# Altium schematic symbol library Cosmos.SchLib: 68 symbols
Pins are listed as number, name and electrical type; pins without a type are passive.

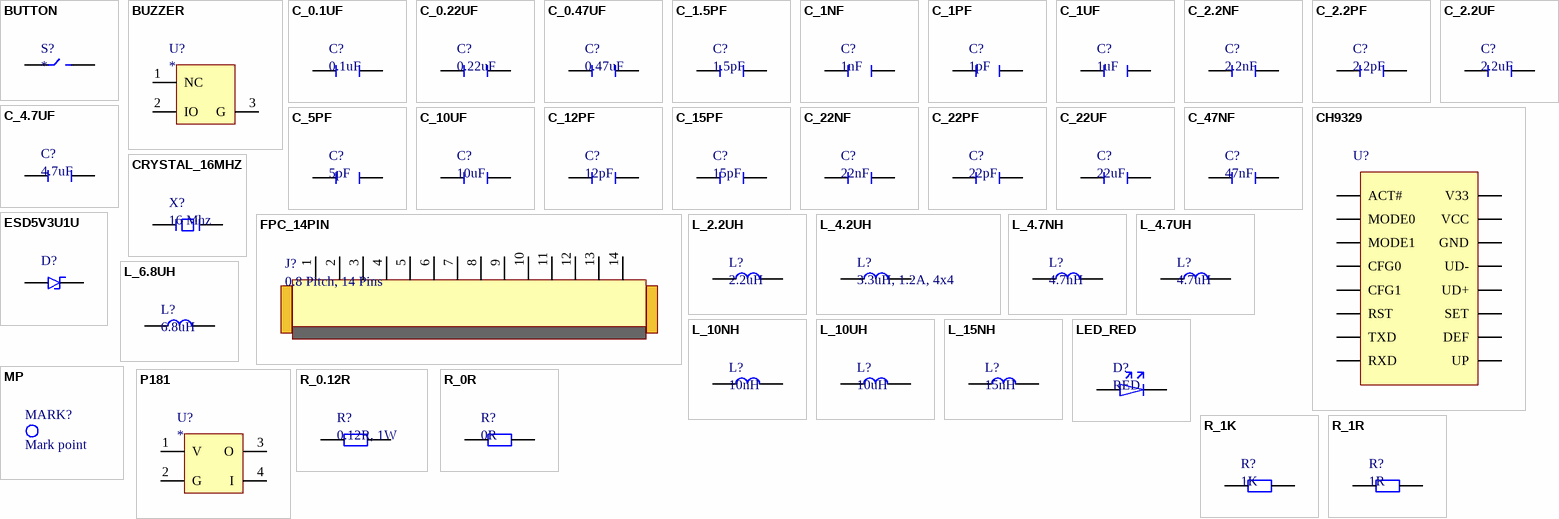
[diagram p0: symbols BUTTON to R_1R]

## BUTTON
designator S?
footprint KFC-A07-06
footprint YD3410
footprint SKRTLAE010
pins: 1, 2

## BUZZER
designator U?
footprint 5020BUZZER (Buzzer, 5020 SMD, 5*5*2)
pins: 1 NC, 2 IO, 3 G

## C_0.1UF
designator C?, comment 0.1uF
footprint C0402
footprint C0603
footprint C1206
pins: 1 17, 2 18

## C_0.22UF
designator C?, comment 0.22uF
footprint C0402
footprint C0603
footprint C1206
pins: 1 17, 2 18

## C_0.47UF
designator C?, comment 0.47uF
footprint C0402
footprint C0603
footprint C1206
pins: 1 17, 2 18

## C_1.5PF
designator C?, comment 1.5pF
footprint C0603
footprint C0402
pins: 1 17, 2 18

## C_1NF
designator C?, comment 1nF
footprint C0603
pins: 1 17, 2 18

## C_1PF
designator C?, comment 1pF
footprint C0603
pins: 1 17, 2 18

## C_1UF
designator C?, comment 1uF
footprint C0603
footprint C0402
pins: 1 17, 2 18

## C_2.2NF
designator C?, comment 2.2nF
footprint C0603
pins: 1 17, 2 18

## C_2.2PF
designator C?, comment 2.2pF
footprint C0603
footprint C0402
pins: 1 17, 2 18

## C_2.2UF
designator C?, comment 2.2uF
footprint C0402
pins: 1 17, 2 18

## C_4.7UF
designator C?, comment 4.7uF
footprint C0603
footprint C0402
pins: 1 17, 2 18

## C_5PF
designator C?, comment 5pF
footprint C0603
footprint C0402
pins: 1 17, 2 18

## C_10UF
designator C?, comment 10uF
footprint C0402
footprint C0603
pins: 1 17, 2 18

## C_12PF
designator C?, comment 12pF
footprint C0603
footprint C0402
pins: 1 17, 2 18

## C_15PF
designator C?, comment 15pF
footprint C0603
footprint C0402
pins: 1 17, 2 18

## C_22NF
designator C?, comment 22nF
footprint C0603
pins: 1 17, 2 18

## C_22PF
designator C?, comment 22pF
footprint C0402
footprint C0603
pins: 1 17, 2 18

## C_22UF
designator C?, comment 22uF
footprint C0402
footprint C0603
pins: 1 17, 2 18

## C_47NF
designator C?, comment 47nF
footprint C0603
pins: 1 17, 2 18

## CH9329
designator U?
footprint CH9329
pins: 1 ACT#, 2 MODE0, 3 MODE1, 4 CFG0, 5 CFG1, 6 RST, 7 TXD, 8 RXD, 9 UP, 10 DEF, 11 SET, 12 UD+, 13 UD-, 14 GND, 15 VCC, 16 V33

## CRYSTAL_16MHZ
designator X?, comment 16 Mhz
footprint CSTCE16M0V53-R0 (3215 Crystal 16Mhz)
pins: 1 5, 2 6

## ESD5V3U1U
designator D?
footprint ESD5V3U1U
pins: 1 17, 2 18

## FPC_14PIN
designator J?, comment 0.8 Pitch, 14 Pins
footprint FPC-14PIN
pins: 1, 2, 3, 4, 5, 6, 7, 8, 9, 10, 11, 12, 13, 14

## L_2.2UH
designator L?, comment 2.2uH
footprint L1210
footprint L0420
footprint L0805
pins: 1 17, 2 18

## L_4.2UH
designator L?, comment 3.3uH, 1.2A, 4x4
pins: 1 17, 2 18

## L_4.7NH
designator L?, comment 4.7nH
footprint L0603
pins: 1 17, 2 18

## L_4.7UH
designator L?, comment 4.7uH
footprint CKST0402-4.7UH (4.7uH, 1.5A, IND 4x4)
pins: 1 17, 2 18

## L_6.8UH
designator L?, comment 6.8uH
footprint CKST0402-6.8UH (6.8uH, 1.5A, IND 4x4)
pins: 1 17, 2 18

## L_10NH
designator L?, comment 10nH
footprint L0603
pins: 1 17, 2 18

## L_10UH
designator L?, comment 10uH
footprint L0603
pins: 1 17, 2 18

## L_15NH
designator L?, comment 15nH
footprint L0603
pins: 1 17, 2 18

## LED_RED
designator D?, comment RED
footprint LED0402
footprint LED0603
pins: 1, 2

## MP
designator MARK?, comment Mark point
footprint MARKPOINT (mark point)

## P181
designator U?
footprint P181GB (Toshiba)
pins: 1 V, 2 G, 3 O, 4 I

## R_0.12R
designator R?, comment 0.12R, 1W
footprint R0603
pins: 1 17, 2 18

## R_0R
designator R?, comment 0R
footprint R0402
footprint R0603
pins: 1 17, 2 18

## R_1K
designator R?, comment 1K
footprint R0402
footprint R0603
pins: 1 17, 2 18

## R_1R
designator R?, comment 1R
footprint R0603
pins: 1 17, 2 18

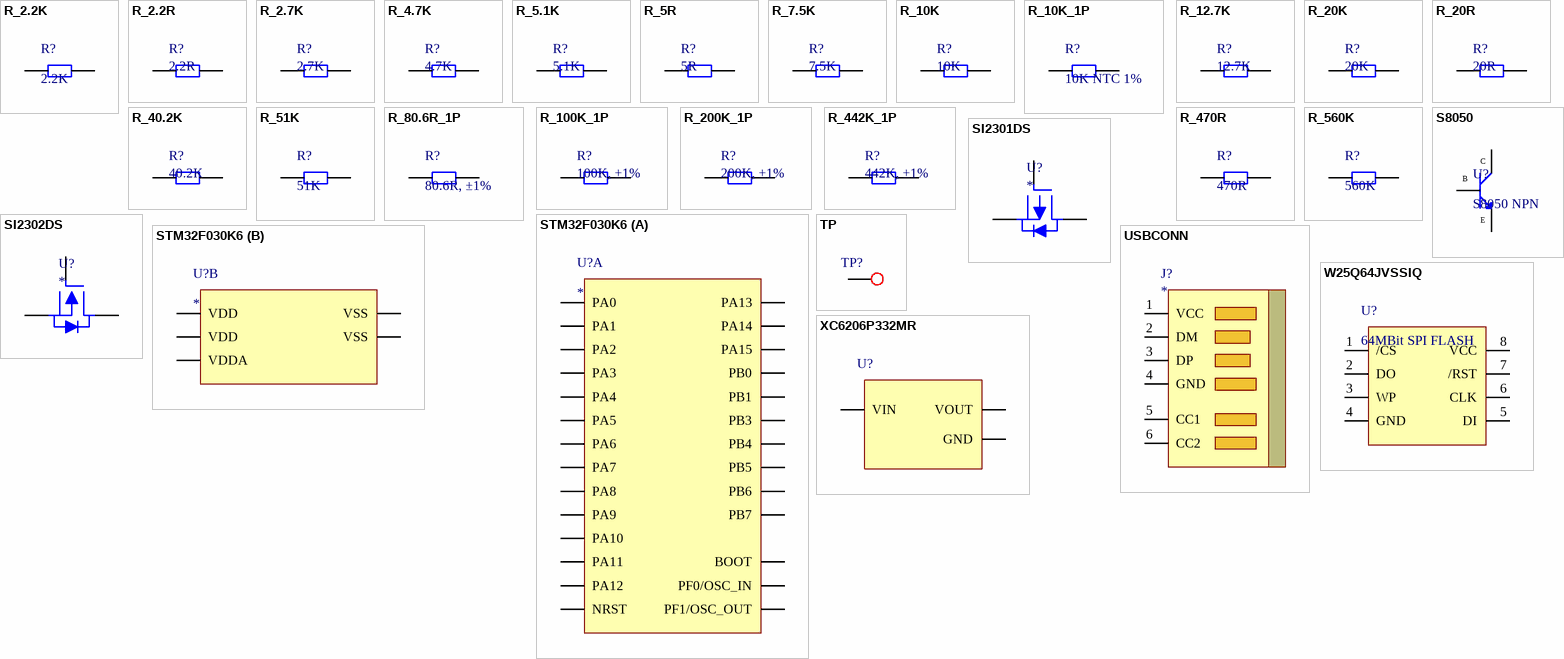
[diagram p1: symbols R_2.2K to XC6206P332MR]

## R_2.2K
designator R?, comment 2.2K
footprint R0402
footprint R0603
pins: 1 17, 2 18

## R_2.2R
designator R?, comment 2.2R
footprint R0402
footprint R0603
pins: 1 17, 2 18

## R_2.7K
designator R?, comment 2.7K
footprint R0603
footprint R0402
pins: 1 17, 2 18

## R_4.7K
designator R?, comment 4.7K
footprint R0603
footprint R0402
pins: 1 17, 2 18

## R_5.1K
designator R?, comment 5.1K
footprint R0402
footprint R0603
pins: 1 17, 2 18

## R_5R
designator R?, comment 5R
footprint R0402
footprint R0603
pins: 1 17, 2 18

## R_7.5K
designator R?, comment 7.5K
footprint R0603
pins: 1 17, 2 18

## R_10K
designator R?, comment 10K
footprint R0603
footprint R0402
pins: 1 17, 2 18

## R_10K_1P
designator R?, comment 10K NTC 1%
footprint R0402
footprint R0603
pins: 1 17, 2 18

## R_12.7K
designator R?, comment 12.7K
footprint R0603
pins: 1 17, 2 18

## R_20K
designator R?, comment 20K
footprint R0603
pins: 1 17, 2 18

## R_20R
designator R?, comment 20R
footprint R0603
pins: 1 17, 2 18

## R_40.2K
designator R?, comment 40.2K
footprint R0603
pins: 1 17, 2 18

## R_51K
designator R?, comment 51K
footprint R0402
footprint R0603
pins: 1 17, 2 18

## R_80.6R_1P
designator R?, comment 80.6R, ±1%
footprint R0402
footprint R0603
pins: 1 17, 2 18

## R_100K_1P
designator R?, comment 100K, ±1%
footprint R0603
pins: 1 17, 2 18

## R_200K_1P
designator R?, comment 200K, ±1%
footprint R0402
footprint R0603
pins: 1 17, 2 18

## R_442K_1P
designator R?, comment 442K, ±1%
footprint R0402
footprint R0603
pins: 1 17, 2 18

## R_470R
designator R?, comment 470R
footprint R0402
footprint R0603
pins: 1 17, 2 18

## R_560K
designator R?, comment 560K
footprint R0402
pins: 1 17, 2 18

## S8050
designator U?, comment S8050 NPN
footprint S8050 (NPN)
pins: 1, 2, 3
text: C; B; E

## SI2301DS
designator U?
footprint SI2301DS
pins: 1 G, 2 S, 3 D

## SI2302DS
designator U?
footprint SI2302DS
pins: 1 G, 2 S, 3 D

## STM32F030K6
designator U?
footprint STM32F030K6
part A pins: 2 PF0/OSC_IN, 3 PF1/OSC_OUT, 4 NRST, 6 PA0, 7 PA1, 8 PA2, 9 PA3, 10 PA4, 11 PA5, 12 PA6, 13 PA7, 14 PB0, 15 PB1, 18 PA8, 19 PA9, 20 PA10, 21 PA11, 22 PA12, 23 PA13, 24 PA14, 25 PA15, 26 PB3, 27 PB4, 28 PB5, 29 PB6, 30 PB7, 31 BOOT
part B pins: 1 VDD, 5 VDDA, 16 VSS, 17 VDD, 32 VSS

## TP
designator TP?, comment Test point  (value not drawn)
footprint TP (Test point)
pins: 1

## USBCONN
designator J?
footprint USB4105_GF_A
footprint USBAM_SNGLE_8PIN (USB TypeA, 8Pin, Double Side)
pins: 1 VCC, 2 DM, 3 DP, 4 GND, 5 CC1, 6 CC2

## W25Q64JVSSIQ
designator U?, comment 64MBit SPI FLASH
footprint W25Q64JVSSIQ
pins: 1 /CS, 2 DO, 3 WP, 4 GND, 5 DI, 6 CLK, 7 /RST, 8 VCC

## XC6206P332MR
designator U?
footprint XC6206P332MR (3.3V)
pins: 1 GND, 2 VOUT, 3 VIN